# Altium footprint library footprints.PcbLib: 68 footprints (part 4 of 5)
Each footprint in its own frame and in the unit in brackets; x right, y up, seen from the top. Pads: shape width x height; smd on the part's side, far side on the other; paste and mask are expansions set on the pad; w line width, h text height; cw(c..) or ccw(c..) is an arc to the next point about the centre after c.
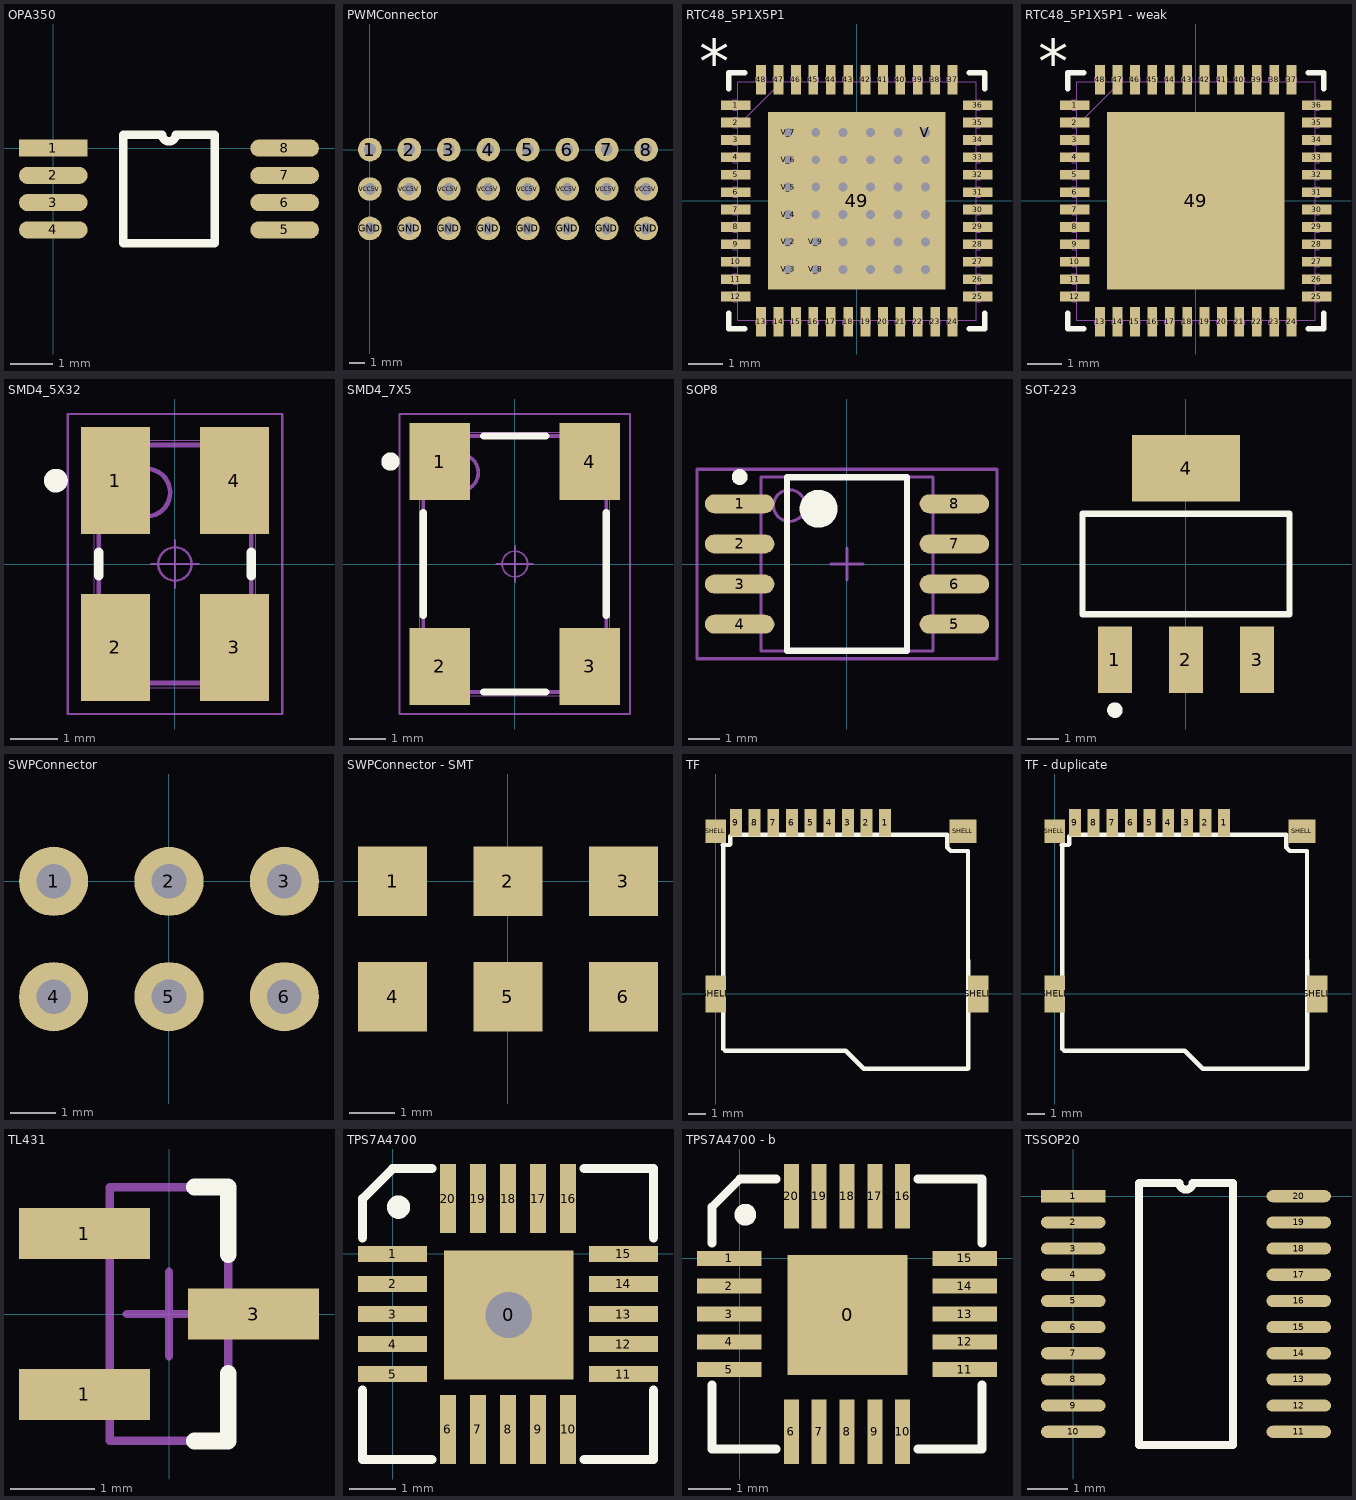
[diagram p3: the footprints below, top view; thin cyan lines are the x and y axes]

## OPA350 [mm]
pads (8):
  rect 1.6x0.4 smd: 1(0,0)
  oval 1.6x0.4 smd: 2(0,-0.635) 3(0,-1.27) 4(0,-1.905) 5(5.4,-1.905) 6(5.4,-1.27) 7(5.4,-0.635) 8(5.4,0)
Top Overlay:
  lines w0.2: 1.635,-2.222 1.635,0.318 2.541,0.318 ccw(c2.7,0.318) 2.859,0.317 3.765,0.318 3.765,-2.222 1.635,-2.222

## PWMConnector [mil]
pads (24):
  round 60 hole 30: 1(0,0) 2(100,0) 3(200,0) 4(300,0) 5(400,0) 6(500,0) 7(600,0) 8(700,0) GND(0,-200) GND(100,-200) GND(200,-200) GND(300,-200) GND(400,-200) GND(500,-200) GND(600,-200) GND(700,-200) VCC5V(0,-100) VCC5V(100,-100) VCC5V(200,-100) VCC5V(300,-100) VCC5V(400,-100) VCC5V(500,-100) VCC5V(600,-100) VCC5V(700,-100)

## RTC48_5P1X5P1 [mil]
pads (85):
  rect 33.46x11.02 smd paste-5.51: 1(-136.81,108.27) 2(-136.81,88.58) 3(-136.81,68.9) 4(-136.81,49.21) 5(-136.81,29.53) 6(-136.81,9.84) 7(-136.81,-9.84) 8(-136.81,-29.53) 9(-136.81,-49.21) 10(-136.81,-68.9) 11(-136.81,-88.58) 12(-136.81,-108.27) 25(136.81,-108.27) 26(136.81,-88.58) 27(136.81,-68.9) 28(136.81,-49.21) 29(136.81,-29.53) 30(136.81,-9.84) 31(136.81,9.84) 32(136.81,29.53) 33(136.81,49.21) 34(136.81,68.9) 35(136.81,88.58) 36(136.81,108.27)
  rect 11.02x33.46 smd paste-5.51: 13(-108.3,-136.81) 14(-88.61,-136.81) 15(-68.92,-136.81) 16(-49.23,-136.81) 17(-29.54,-136.81) 18(-9.85,-136.81) 19(9.85,-136.81) 20(29.54,-136.81) 21(49.23,-136.81) 22(68.92,-136.81) 23(88.61,-136.81) 24(108.3,-136.81) 37(108.3,136.81) 38(88.61,136.81) 39(68.92,136.81) 40(49.23,136.81) 41(29.54,136.81) 42(9.85,136.81) 43(-9.85,136.81) 44(-29.54,136.81) 45(-49.23,136.81) 46(-68.92,136.81) 47(-88.61,136.81) 48(-108.3,136.81)
  rect 200.79x200.79 smd paste-99.89 mask-100: 49(0,0)
  round 20 / inner round 60 / far side round 20 hole 10: V(77.5,77.5) V_2(-77.5,-46.5) V_3(-77.5,-77.5) V_4(-77.5,-15.5) V_5(-77.5,15.5) V_6(-77.5,46.5) V_7(-77.5,77.5) V_8(-46.5,-77.5) V_9(-46.5,-46.5) V_10(-46.5,-15.5) V_11(-46.5,15.5) V_12(-46.5,46.5) V_13(-46.5,77.5) V_14(-15.5,-77.5) V_15(-15.5,-46.5) V_16(-15.5,-15.5) V_17(-15.5,15.5) V_18(-15.5,46.5) V_19(-15.5,77.5) V_20(15.5,-77.5) V_21(15.5,-46.5) V_22(15.5,-15.5) V_23(15.5,15.5) V_24(15.5,46.5) V_25(15.5,77.5) V_26(46.5,-77.5) V_27(46.5,-46.5) V_28(46.5,-15.5) V_29(46.5,15.5) V_30(46.5,46.5) V_31(46.5,77.5) V_32(77.5,-77.5) V_33(77.5,-46.5) V_34(77.5,-15.5) V_35(77.5,15.5) V_36(77.5,46.5)
Top Overlay:
  lines w6: -144.84,-126.88 -144.84,-144.84 -126.91,-144.84 ; -144.84,126.88 -144.84,144.84 -126.91,144.84 ; 126.91,-144.84 144.84,-144.84 144.84,-126.88 ; 126.91,144.84 144.84,144.84 144.84,126.88
  text "*" at -178.54,133.11 h50
Top Paste:
  drawing of 97 lines, arcs and shapes, not listed
Top Solder:
  drawing of 62 lines, arcs and shapes, not listed
Mechanical 1:
  drawing of 197 lines, arcs and shapes, not listed
  text "*" at -178.54,133.11 h50

## RTC48_5P1X5P1 - weak [mm]
pads (49):
  rect 0.85x0.28 smd paste-0.14: 1(-3.475,2.75) 2(-3.475,2.25) 3(-3.475,1.75) 4(-3.475,1.25) 5(-3.475,0.75) 6(-3.475,0.25) 7(-3.475,-0.25) 8(-3.475,-0.75) 9(-3.475,-1.25) 10(-3.475,-1.75) 11(-3.475,-2.25) 12(-3.475,-2.75) 25(3.475,-2.75) 26(3.475,-2.25) 27(3.475,-1.75) 28(3.475,-1.25) 29(3.475,-0.75) 30(3.475,-0.25) 31(3.475,0.25) 32(3.475,0.75) 33(3.475,1.25) 34(3.475,1.75) 35(3.475,2.25) 36(3.475,2.75)
  rect 0.28x0.85 smd paste-0.14: 13(-2.751,-3.475) 14(-2.251,-3.475) 15(-1.75,-3.475) 16(-1.25,-3.475) 17(-0.75,-3.475) 18(-0.25,-3.475) 19(0.25,-3.475) 20(0.75,-3.475) 21(1.25,-3.475) 22(1.75,-3.475) 23(2.251,-3.475) 24(2.751,-3.475) 37(2.751,3.475) 38(2.251,3.475) 39(1.75,3.475) 40(1.25,3.475) 41(0.75,3.475) 42(0.25,3.475) 43(-0.25,3.475) 44(-0.75,3.475) 45(-1.25,3.475) 46(-1.75,3.475) 47(-2.251,3.475) 48(-2.751,3.475)
  rect 5.1x5.1 smd paste-2.537 mask-2.54: 49(0,0)
Top Overlay:
  lines w0.152: -3.679,-3.223 -3.679,-3.679 -3.223,-3.679 ; -3.679,3.223 -3.679,3.679 -3.223,3.679 ; 3.223,-3.679 3.679,-3.679 3.679,-3.223 ; 3.223,3.679 3.679,3.679 3.679,3.223
  text "*" at -4.535,3.381 h1.27
Top Paste:
  drawing of 48 lines, arcs and shapes, not listed
Top Solder:
  drawing of 62 lines, arcs and shapes, not listed
Mechanical 1:
  drawing of 197 lines, arcs and shapes, not listed
  text "*" at -4.535,3.381 h1.27

## SMD4_5X32 [mm]
pads (4):
  rect 1.45x2.25 smd: 1(-1.25,1.75) 2(-1.25,-1.75) 3(1.25,-1.75) 4(1.25,1.75)
Top Overlay:
  circle w0.25: c-2.5,1.75 r0.125
  lines w0.2: -1.6,-0.25 -1.6,0.25 ; 1.6,-0.25 1.6,0.25
Mechanical 15:
  circle w0.1: c-0.6,1.5 r0.5
  lines w0.1: -1.6,-2.5 -1.6,2.5 1.6,2.5 1.6,-2.5 -1.6,-2.5
Mechanical 16:
  circle w0.05: c0,0 r0.35
  lines w0.001: -1.7,-2.6 -1.7,2.6 1.7,2.6 1.7,-2.6 -1.7,-2.6
  lines w0.05: -0.5,0 0.5,0 ; 0,-0.5 0,0.5 ; -2.25,-3.15 -2.25,3.15 2.25,3.15 2.25,-3.15 -2.25,-3.15

## SMD4_7X5 [mm]
pads (4):
  rect 1.65x2.1 smd: 1(-2.05,2.8) 2(-2.05,-2.8) 3(2.05,-2.8) 4(2.05,2.8)
Top Overlay:
  circle w0.25: c-3.4,2.8 r0.125
  lines w0.2: -2.5,-1.4 -2.5,1.4 ; -0.85,-3.5 0.85,-3.5 ; -0.85,3.5 0.85,3.5 ; 2.5,-1.4 2.5,1.4
Mechanical 15:
  circle w0.1: c-1.5,2.5 r0.5
  lines w0.1: -2.5,-3.5 2.5,-3.5 2.5,3.5 -2.5,3.5 -2.5,-3.5
Mechanical 16:
  circle w0.05: c0,0 r0.35
  lines w0.001: -2.6,-3.6 2.6,-3.6 2.6,3.6 -2.6,3.6 -2.6,-3.6
  lines w0.05: -0.5,0 0.5,0 ; 0,-0.5 0,0.5 ; -3.15,-4.1 3.15,-4.1 3.15,4.1 -3.15,4.1 -3.15,-4.1

## SOP8 [mm] "8-Pin Small Outline Package 1.27 mm Pitch, IPC Medium Density"
height 2.03
pads (8):
  oval 2.2x0.6 smd: 1(-3.4,1.905) 2(-3.4,0.635) 3(-3.4,-0.635) 4(-3.4,-1.905) 5(3.4,-1.905) 6(3.4,-0.635) 7(3.4,0.635) 8(3.4,1.905)
Top Overlay:
  circle w0.25: c-3.4,2.755 r0.125
  circle w0.6: c-0.9,1.75 r0.3
  lines w0.2: -1.9,-2.75 -1.9,2.75 1.9,2.75 1.9,-2.75 -1.9,-2.75
Mechanical 13:
  circle w0.1: c-1.825,1.85 r0.5
  lines w0.1: -2.725,-2.75 -2.725,2.75 2.725,2.75 2.725,-2.75 -2.725,-2.75
Mechanical 15:
  lines w0.1: -0.5,0 0.5,0 ; 0,-0.5 0,0.5 ; -4.75,-3 -4.75,3 4.75,3 4.75,-3 -4.75,-3
3D body: height 2.03, standoff 0, extent -2.725,-2.75 2.725,2.75

## SOT-223 [mm] "SOT-223/SC-73; 4 Leads; Body 6.7 x 7.3 mm, inc. leads (LxW max)"
height 1.8
pads (4):
  rect 1.1x2.15 smd: 1(-2.3,-3.1) 2(0,-3.1) 3(2.3,-3.1)
  rect 3.5x2.15 smd: 4(0,3.1)
Top Overlay:
  circle w0.25: c-2.3,-4.725 r0.125
  lines w0.2: -3.35,-1.625 -3.35,1.625 3.35,1.625 3.35,-1.625 -3.35,-1.625

## SWPConnector [mil]
pads (6):
  round 60 hole 30: 1(-100,0) 2(0,0) 3(100,0) 4(-100,-100) 5(0,-100) 6(100,-100)

## SWPConnector - SMT [mil]
pads (6):
  rect 60x60 smd: 1(-100,0) 2(0,0) 3(100,0) 4(-100,-100) 5(0,-100) 6(100,-100)

## TF [mm]
pads (13):
  rect 0.7x1.6 smd: 1(10,10.1) 2(8.9,10.1) 3(7.8,10.1) 4(6.7,10.1) 5(5.6,10.1) 6(4.5,10.1) 7(3.4,10.1) 8(2.3,10.1) 9(1.2,10.1)
  rect 1.2x2.2 smd: SHELL(0,0) SHELL(15.5,0)
  rect 1.2x1.4 smd: SHELL(0,9.6)
  rect 1.6x1.4 smd: SHELL(14.6,9.6)
Top Layer:
  lines w0.254: 0.457,-3.251 0.559,-3.353
Top Overlay:
  lines w0.254: 0.406,8.788 0.813,8.788 0.864,8.839 0.864,9.296 0.965,9.398 13.665,9.398 13.665,8.636 13.868,8.433 14.884,8.433 14.9,-4.4 ; 0.457,-3.251 0.457,8.738 ; 0.559,-3.353 7.671,-3.353 8.738,-4.42 14.88,-4.42

## TF - duplicate [mm]
pads (13):
  rect 0.7x1.6 smd: 1(10,10.1) 2(8.9,10.1) 3(7.8,10.1) 4(6.7,10.1) 5(5.6,10.1) 6(4.5,10.1) 7(3.4,10.1) 8(2.3,10.1) 9(1.2,10.1)
  rect 1.2x2.2 smd: SHELL(0,0) SHELL(15.5,0)
  rect 1.2x1.4 smd: SHELL(0,9.6)
  rect 1.6x1.4 smd: SHELL(14.6,9.6)
Top Layer:
  lines w0.254: 0.457,-3.251 0.559,-3.353
Top Overlay:
  lines w0.254: 0.406,8.788 0.813,8.788 0.864,8.839 0.864,9.296 0.965,9.398 13.665,9.398 13.665,8.636 13.868,8.433 14.884,8.433 14.9,-4.4 ; 0.457,-3.251 0.457,8.738 ; 0.559,-3.353 7.671,-3.353 8.738,-4.42 14.88,-4.42

## TL431 [mm] "SOT23, 3-Leads, Body 2.9x1.3mm, Pitch 0.95mm, Lead Span 2.5mm, IPC Low Density"
height 1.1
pads (3):
  rect 1.546x0.6 smd: 1(-1,-0.95) 1(-1,0.95) 3(1,0)
Top Overlay:
  lines w0.2: 0.3,-1.5 0.7,-1.5 0.7,-0.7 ; 0.3,1.5 0.7,1.5 0.7,0.7
Mechanical 13:
  lines w0.1: -0.7,-1.5 -0.7,1.5 0.7,1.5 0.7,-1.5 -0.7,-1.5
Mechanical 15:
  lines w0.1: -0.5,0 0.5,0 ; 0,-0.5 0,0.5
3D body: height 1.1, standoff 0, extent -0.7,-1.5 0.7,1.5

## TPS7A4700 [mm]
pads (21):
  rect 2.8x2.8 hole 1: 0(2.515,-1.321)
  rect 1.5x0.35 smd: 1(0,0) 2(0,-0.65) 3(0,-1.3) 4(0,-1.95) 5(0,-2.6) 11(5,-2.6) 12(5,-1.95) 13(5,-1.3) 14(5,-0.65) 15(5,0)
  rect 0.35x1.5 smd: 6(1.2,-3.8) 7(1.85,-3.8) 8(2.5,-3.8) 9(3.15,-3.8) 10(3.8,-3.8) 16(3.8,1.2) 17(3.15,1.2) 18(2.5,1.2) 19(1.85,1.2) 20(1.2,1.2)
Top Overlay:
  circle w0.254: c0.127,1.016 r0.127
  lines w0.2: -0.65,-2.95 -0.65,-4.45 0.85,-4.45 ; -0.65,0.35 -0.65,1.2 0,1.85 0.85,1.85 ; 4.15,-4.45 5.65,-4.45 5.65,-2.95 ; 4.15,1.85 5.65,1.85 5.65,0.35

## TPS7A4700 - b [mm]
pads (21):
  rect 2.8x2.8 smd: 0(2.515,-1.321)
  rect 1.5x0.35 smd: 1(-0.25,0) 2(-0.25,-0.65) 3(-0.25,-1.3) 4(-0.25,-1.95) 5(-0.25,-2.6) 11(5.25,-2.6) 12(5.25,-1.95) 13(5.25,-1.3) 14(5.25,-0.65) 15(5.25,0)
  rect 0.35x1.5 smd: 6(1.2,-4.05) 7(1.85,-4.05) 8(2.5,-4.05) 9(3.15,-4.05) 10(3.8,-4.05) 16(3.8,1.45) 17(3.15,1.45) 18(2.5,1.45) 19(1.85,1.45) 20(1.2,1.45)
Top Overlay:
  circle w0.254: c0.127,1.016 r0.127
  lines w0.2: -0.65,-2.95 -0.65,-4.45 0.85,-4.45 ; -0.65,0.35 -0.65,1.2 0,1.85 0.85,1.85 ; 4.15,-4.45 5.65,-4.45 5.65,-2.95 ; 4.15,1.85 5.65,1.85 5.65,0.35

## TSSOP20 [mm]
pads (20):
  rect 1.6x0.3 smd: 1(0,0)
  oval 1.6x0.3 smd: 2(0,-0.65) 3(0,-1.3) 4(0,-1.95) 5(0,-2.6) 6(0,-3.25) 7(0,-3.9) 8(0,-4.55) 9(0,-5.2) 10(0,-5.85) 11(5.6,-5.85) 12(5.6,-5.2) 13(5.6,-4.55) 14(5.6,-3.9) 15(5.6,-3.25) 16(5.6,-2.6) 17(5.6,-1.95) 18(5.6,-1.3) 19(5.6,-0.65) 20(5.6,0)
Top Overlay:
  lines w0.2: 1.635,-6.175 3.965,-6.175 3.965,0.325 2.962,0.325 cw(c2.8,0.325) 2.638,0.325 1.635,0.325 1.635,-6.175